# EAGLE library part L3G4200DH (library rgb_cube)
L3G4200DH - Digital 3-axis Gyroscope The L3G4200DH is a low-power three-axis angular rate sensor. The L3G4200DH has a full scale of ±250/±500/ ±2000 dps and is capable of measuring rates with a user-selectable bandwidth. It can operate within a temperature range from -40 °C to +85 °C. Supply voltage: 2.4 V to 3.6 V. Full datasheet: L3G4200DH Datasheet <http://www.st.com/stonline/products/literature/ds/17300.pdf>
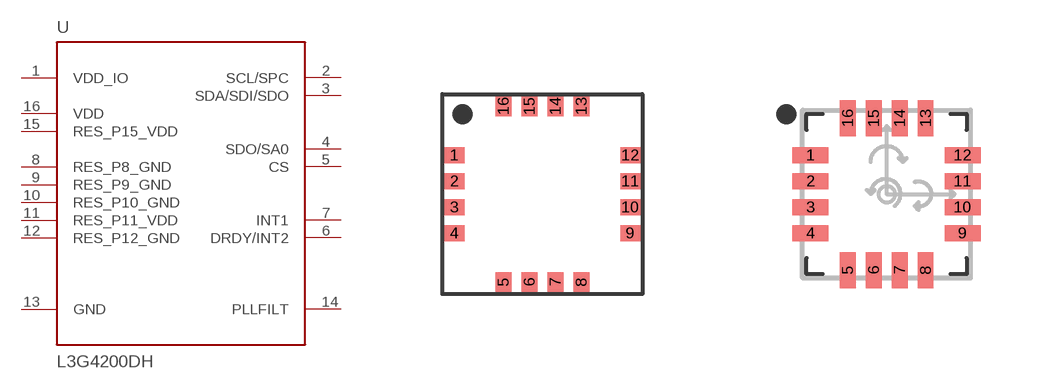
[diagram p12: symbol with the pads of LGA-16L; footprints LGA-16L, L3G4200DH-MAN]

Designator prefix U

## L3G4200DH  [LGA-16L]
1  VDD_IO
2  SCL/SPC  in
3  SDA/SDI/SDO
4  SDO/SA0
5  CS  in
6  DRDY/INT2  out
7  INT1  out
8  RES_P8_GND
9  RES_P9_GND
10  RES_P10_GND
11  RES_P11_VDD
12  RES_P12_GND
13  GND
14  PLLFILT
15  RES_P15_VDD
16  VDD

## L3G4200DH-LL  [L3G4200DH-MAN]
Pads as for LGA-16L

## Footprint LGA-16L (pad centres in mm)
Description LGA-16 5x5 mm package (4x4 pin layout) This layout follows the ST Micro design guidelines for LGA packages found at: ST Micro LGA surface mounting guidelines <http://www.st.com/internet/com/TECHNICAL_RESOURCES/TECHNICAL_LITERATURE/TECHNICAL_NOTE/CD00134799.pdf>
smd 0.5 x 0.4: 1 -2.2,0.975; 2 -2.2,0.325; 3 -2.2,-0.325; 4 -2.2,-0.975; 9 2.2,-0.975; 10 2.2,-0.325; 11 2.2,0.325; 12 2.2,0.975
smd 0.4 x 0.5: 5 -0.975,-2.2; 6 -0.325,-2.2; 7 0.325,-2.2; 8 0.975,-2.2; 13 0.975,2.2; 14 0.325,2.2; 15 -0.325,2.2; 16 -0.975,2.2

## Footprint L3G4200DH-MAN (pad centres in mm)
LGA-16L Case for manual assembly
smd 0.9 x 0.4: 1 -1.9,0.975; 2 -1.9,0.325; 3 -1.9,-0.325; 4 -1.9,-0.975; 9 1.9,-0.975; 10 1.9,-0.325; 11 1.9,0.325; 12 1.9,0.975
smd 0.4 x 0.9: 5 -0.975,-1.9; 6 -0.325,-1.9; 7 0.325,-1.9; 8 0.975,-1.9; 13 0.975,1.9; 14 0.325,1.9; 15 -0.325,1.9; 16 -0.975,1.9